# Altium footprint library SATA_Vertical_Data_Connector.PcbLib: 1 footprints
Each footprint in its own frame and in the unit in brackets; x right, y up, seen from the top. Pads: shape width x height; smd on the part's side, far side on the other; paste and mask are expansions set on the pad; w line width, h text height; cw(c..) or ccw(c..) is an arc to the next point about the centre after c.
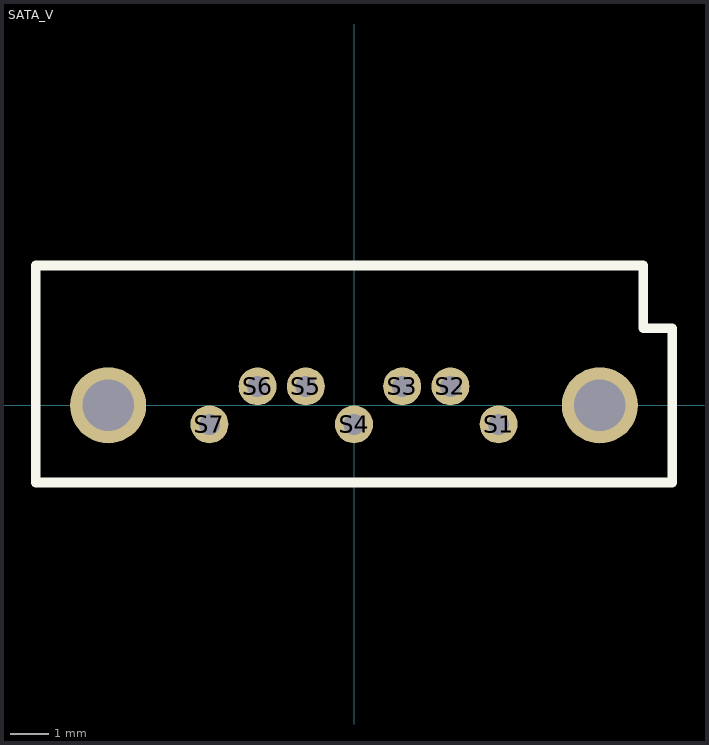
[diagram p0: the footprint, top view; thin cyan lines are the x and y axes]

## SATA_V [mm] "SATA Vertical Data Connector"
pads (9):
  round 1 hole 0.55: S1(3.81,-0.5) S2(2.54,0.5) S3(1.27,0.5) S4(0,-0.5) S5(-1.27,0.5) S6(-2.54,0.5) S7(-3.81,-0.5)
  round 2 hole 1.35: ""(-6.477,0) ""(6.477,0)
Top Overlay:
  lines w0.254: -8.382,-2.032 8.382,-2.032 8.382,2.032 7.62,2.032 7.62,3.683 -8.382,3.683 -8.382,-2.032
3D body: height 8.4, standoff -3.3, extent -8.39,-2.017 8.39,3.683